# EAGLE library part ZIF-24-6554-10 (library FaBo-Parts)
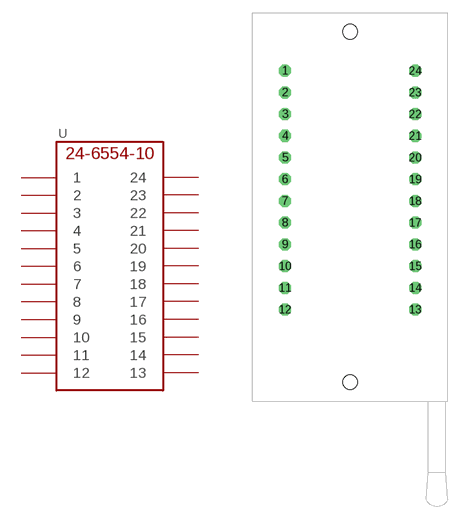
[diagram p3: symbol with the pads of ZIF-24-6554-10; footprint ZIF-24-6554-10]

Designator prefix U

## ZIF-24-6554-10  [ZIF-24-6554-10]
1  1
2  2
3  3
4  4
5  5
6  6
7  7
8  8
9  9
10  10
11  11
12  12
13  13
14  14
15  15
16  16
17  17
18  18
19  19
20  20
21  21
22  22
23  23
24  24

## Footprint ZIF-24-6554-10 (pad centres in mm)
drill 0.9 octagon: 1 -7.62,13.97; 2 -7.62,11.43; 3 -7.62,8.89; 4 -7.62,6.35; 5 -7.62,3.81; 6 -7.62,1.27; 7 -7.62,-1.27; 8 -7.62,-3.81; 9 -7.62,-6.35; 10 -7.62,-8.89; 11 -7.62,-11.43; 12 -7.62,-13.97; 13 7.62,-13.97; 14 7.62,-11.43; 15 7.62,-8.89; 16 7.62,-6.35; 17 7.62,-3.81; 18 7.62,-1.27; 19 7.62,1.27; 20 7.62,3.81; 21 7.62,6.35; 22 7.62,8.89; 23 7.62,11.43; 24 7.62,13.97
hole 1.7 at 0,18.54
hole 1.7 at 0,-22.48